# Altium footprint library FPC-0.5-45 抽屉式上接.PcbLib: 1 footprints
Each footprint in its own frame and in the unit in brackets; x right, y up, seen from the top. Pads: shape width x height; smd on the part's side, far side on the other; paste and mask are expansions set on the pad; w line width, h text height; cw(c..) or ccw(c..) is an arc to the next point about the centre after c.
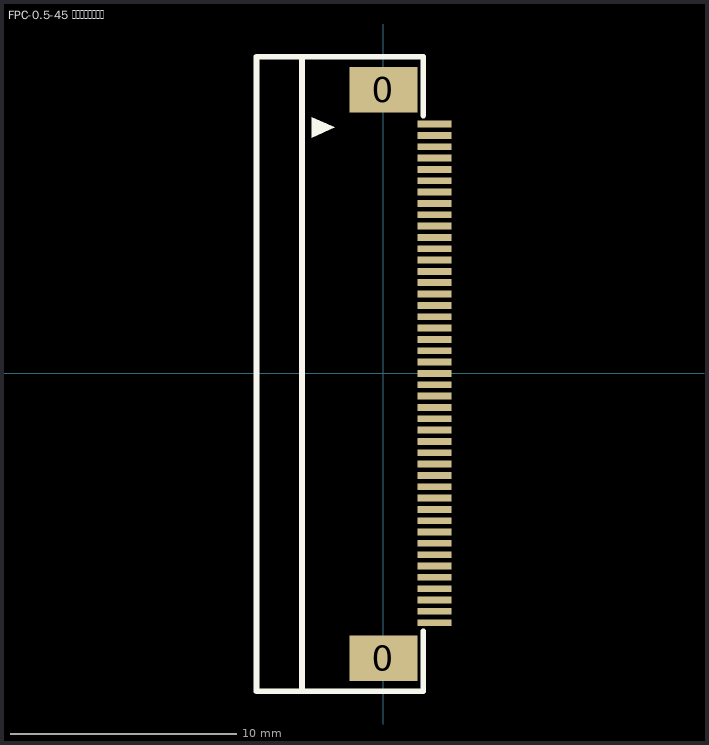
[diagram p0: the footprint, top view; thin cyan lines are the x and y axes]

## FPC-0.5-45 ����ʽ�Ͻ� [mm]
pads (47):
  rect 3x2 smd: 0(-0.006,12.515) 0(0,-12.568)
  rect 1.5x0.3 smd: 1(2.254,11.001) 2(2.254,10.502) 3(2.254,10.002) 4(2.254,9.502) 5(2.254,9.002) 6(2.254,8.502) 7(2.254,8.002) 8(2.254,7.502) 9(2.254,7.002) 10(2.254,6.502) 11(2.254,6.002) 12(2.254,5.502) 13(2.254,5.002) 14(2.254,4.502) 15(2.256,4.006) 16(2.255,3.502) 17(2.254,3.002) 18(2.254,2.502) 19(2.254,2.003) 20(2.257,1.5) 21(2.257,1) 22(2.257,0.5) 23(2.257,0) 24(2.257,-0.5) 25(2.257,-1) 26(2.258,-1.501) 27(2.258,-2.001) 28(2.257,-2.5) 29(2.258,-2.999) 30(2.258,-3.501) 31(2.257,-4) 32(2.257,-4.5) 33(2.257,-5) 34(2.257,-5.5) 35(2.257,-6) 36(2.257,-6.5) 37(2.257,-7) 38(2.257,-7.5) 39(2.257,-8) 40(2.257,-8.5) 41(2.257,-9) 42(2.257,-9.5) 43(2.257,-9.999) 44(2.257,-10.5) 45(2.257,-11)
Top Overlay:
  region: -3.164,11.293 -3.164,10.403 -2.154,10.863
  lines w0.254: -5.606,13.975 -3.626,13.975 ; -5.596,-14.025 -5.596,13.975 ; -5.586,-14.025 -3.606,-14.025 ; 1.754,-11.382 1.754,-14.025 -3.596,-14.025 -3.596,13.975 1.754,13.975 1.754,11.382